# Altium schematic symbol library RF.SchLib: 33 symbols
Pins are listed as number, name and electrical type; pins without a type are passive.

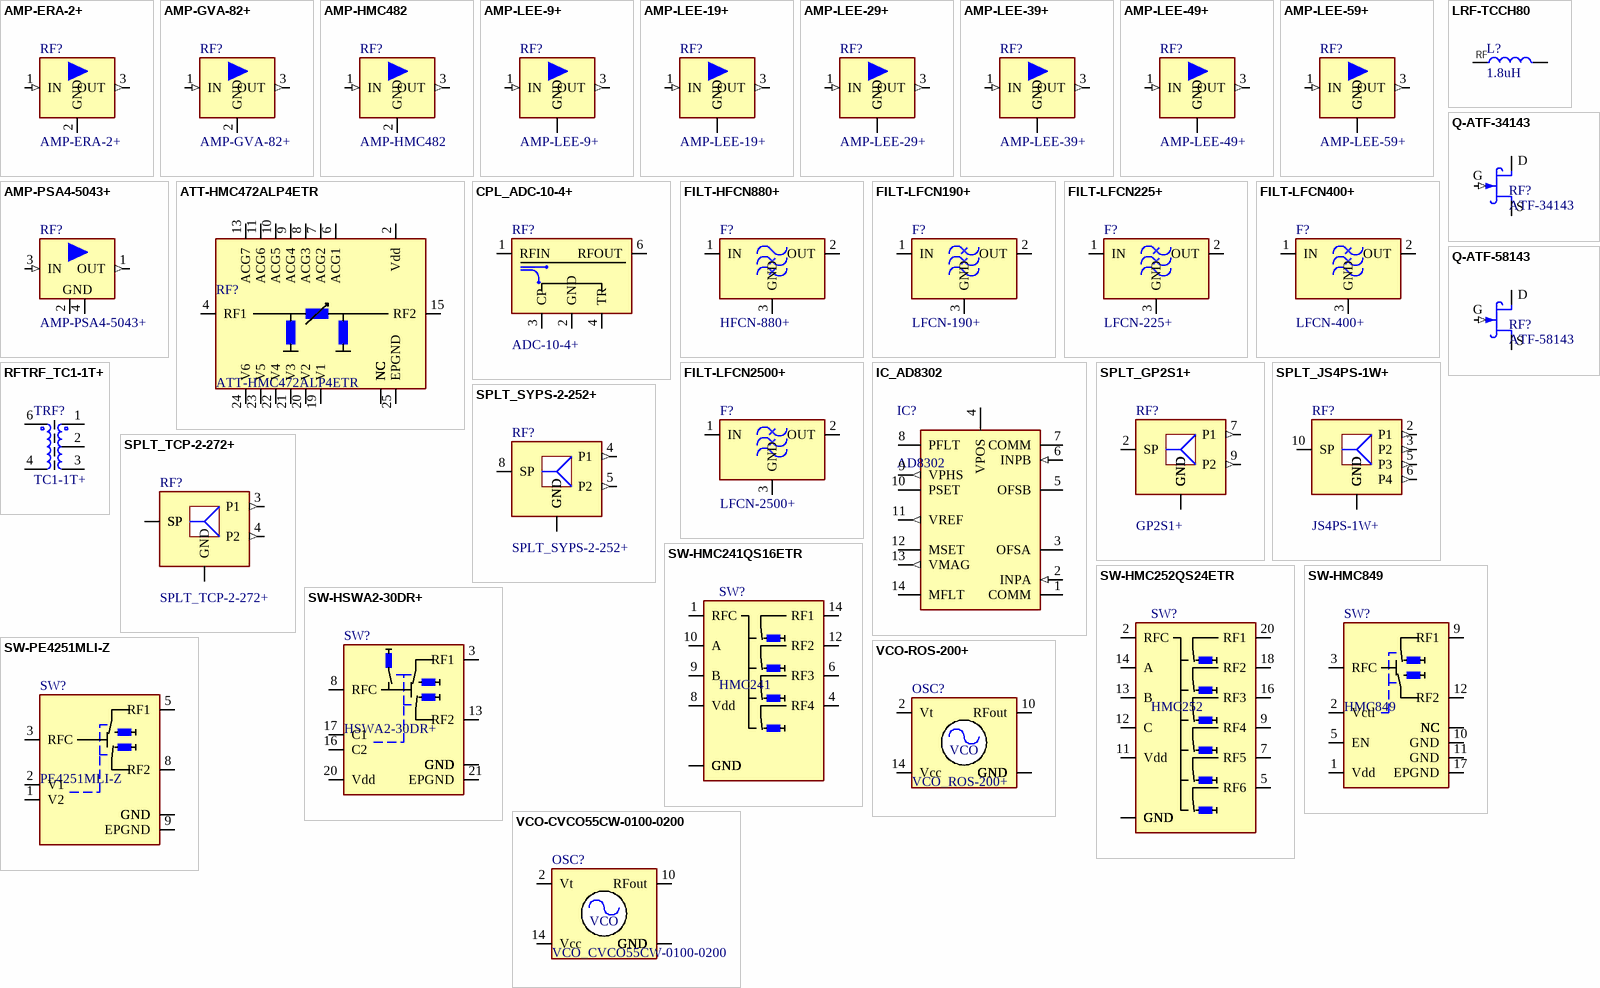
[diagram p0: symbols AMP-ERA-2+ to VCO-ROS-200+]

## AMP-ERA-2+
designator RF?
Monolithic Amplifier DC - 6GHz; Manufacturer: MiniCircuits; Manufacturer No: ERA-2+; Tech: SMDR; Package: VV109; Supplier 1: MiniCircuits; Supplier Part Number 1: ERA-2+; Supplier Unit Price 1: 1.52
footprint VV105 (RF transistor 4pin D2.2x1.5mm)
pins: 1 IN (in), 2 GND (power), 3 OUT (out)

## AMP-GVA-82+
designator RF?
Monolithic Amplifier DC - 7GHz; Manufacturer: MiniCircuits; Tech: SMDR; Manufacturer No: GVA-82+; Package: SOT-89; Supplier 1: MiniCircuits; Supplier Part Number 1: GVA-82+; Supplier Unit Price 1: 1.82
footprint SOT89-1 (SOT89 3-Leads 4,5x2,4mm R1,50mm)
pins: 1 IN (in), 2 GND (power), 3 OUT (out)

## AMP-HMC482
designator RF?
Monolithic Amplifier DC - 5GHz; Manufacturer: Analog Devices; Manufacturer No: HMC482ST89ETR; Tech: SMDR; Package: SOT-89; Supplier 1: Mouser; Supplier Part Number 1: 584-HMC482ST89ETR; Supplier 2: Newark; Supplier Part Number 2: 27Y2407; Supplier 3: Digi-Key; Supplier Part Number 3: 1127-1421-1-ND
footprint SOT89-1 (SOT89 3-Leads 4,5x2,4mm R1,50mm)
pins: 1 IN (in), 2 GND (power), 3 OUT (out)

## AMP-LEE-9+
designator RF?
Monolithic Amplifier DC - 8GHz; Manufacturer: MiniCircuits; Manufacturer No: LEE-9+; Tech: SMDR; Package: FG873; Supplier 1: MiniCircuits; Supplier Part Number 1: LEE-9+; Supplier Unit Price 1: 1.79
footprint RF-FG873 (RF Footprint for LEE series FG873)
pins: 1 IN (in), 2 GND (power), 3 OUT (out), 4 GND (power)

## AMP-LEE-19+
designator RF?
Monolithic Amplifier DC - 8GHz; Manufacturer: MiniCircuits; Tech: SMDR; Manufacturer No: LEE-19+; Package: FG873; Supplier 1: MiniCircuits; Supplier Part Number 1: LEE-19+; Supplier Unit Price 1: 1.19
footprint RF-FG873 (RF Footprint for LEE series FG873)
pins: 1 IN (in), 2 GND (power), 3 OUT (out), 4 GND (power)

## AMP-LEE-29+
designator RF?
Monolithic Amplifier DC - 8GHz; Manufacturer: MiniCircuits; Tech: SMDR; Manufacturer No: LEE-29+; Package: FG873; Supplier 1: MiniCircuits; Supplier Part Number 1: LEE-29+; Supplier Unit Price 1: 1.19
footprint RF-FG873 (RF Footprint for LEE series FG873)
pins: 1 IN (in), 2 GND (power), 3 OUT (out), 4 GND (power)

## AMP-LEE-39+
designator RF?
Monolithic Amplifier DC - 8GHz; Manufacturer: MiniCircuits; Tech: SMDR; Manufacturer No: LEE-39+; Package: FG873; Supplier 1: MiniCircuits; Supplier Part Number 1: LEE-39+; Supplier Unit Price 1: 1.19
footprint RF-FG873 (RF Footprint for LEE series FG873)
pins: 1 IN (in), 2 GND (power), 3 OUT (out), 4 GND (power)

## AMP-LEE-49+
designator RF?
Monolithic Amplifier DC - 5GHz; Manufacturer: MiniCircuits; Tech: SMDR; Manufacturer No: LEE-49+; Package: FG873; Supplier 1: MiniCircuits; Supplier Part Number 1: LEE-49+; Supplier Unit Price 1: 1.79
footprint RF-FG873 (RF Footprint for LEE series FG873)
pins: 1 IN (in), 2 GND (power), 3 OUT (out), 4 GND (power)

## AMP-LEE-59+
designator RF?
Monolithic Amplifier DC - 5GHz; Manufacturer: MiniCircuits; Tech: SMDR; Manufacturer No: LEE-59+; Package: FG873; Supplier 1: MiniCircuits; Supplier Part Number 1: LEE-59+; Supplier Unit Price 1: 1.79
footprint RF-FG873 (RF Footprint for LEE series FG873)
pins: 1 IN (in), 2 GND (power), 3 OUT (out), 4 GND (power)

## AMP-PSA4-5043+
designator RF?
Monolithic Amplifier 50MHz - 4GHz, 0.75NF; Manufacturer: MiniCircuits; Tech: SMDR; Manufacturer No: PSA4-5043+; Package: MMM1362; Supplier 1: MiniCircuits; Supplier Part Number 1: PSA4-5043+; Supplier Unit Price 1: 2.58
footprint MMM1362
pins: 1 OUT (out), 2 GND (power), 3 IN (in), 4 GND (power)

## ATT-HMC472ALP4ETR
designator RF?
Digital Step Attenuator 50R, DC to 3.8GHz, 0 to 31.5dB; Manufacturer: Analog Devices; Tech: SMDR; Manufacturer No: HMC472ALP4ETR; Package: QFN-24; Supplier 1: Mouser; Supplier Part Number 1: 584-HMC472ALP4ETR; Supplier 2: Digi-Key; Supplier Part Number 2: 1127-1854-1-ND; Supplier 3: Newark; Supplier Part Number 3: 27Y2373
footprint QFN50P400X400X100_HS-25N (QFN, 24-Leads, Body 4.00x4.00mm, Pitch 0.50mm, Thermal Pad 2.80x2.100mm, IPC Medium Density)
pins: 1 NC, 2 Vdd, 3 NC, 4 RF1, 5 NC, 6 ACG1, 7 ACG2, 8 ACG3, 9 ACG4, 10 ACG5, 11 ACG6, 12 NC, 13 ACG7, 14 NC, 15 RF2, 16 NC, 17 NC, 18 NC, 19 V1, 20 V2, 21 V3, 22 V4, 23 V5, 24 V6, 25 EPGND

## CPL_ADC-10-4+
designator RF?, comment ADC-10-4+
Directional Coupler, 50R, 5 MHz to 1000 MHz; Manufacturer: MiniCircuits; Tech: SMDR; Manufacturer No: ADC-10-4+; Package: DC542; Supplier 1: MiniCircuits; Supplier Part Number 1: ADC-10-4+; Supplier Unit Price 1: 11.95
footprint DC542 (Directionanl coupler 50R 5 to 2500MHz)
pins: 1 RFIN, 2 GND (power), 3 CP (power), 4 TR (power), 6 RFOUT

## FILT-HFCN880+
designator F?, comment HFCN-880+
High Pass Filter 950 to 3200MHz 50R; Manufacturer: MiniCircuits; Tech: SMDR; Manufacturer No: HFCN-880+; Package: Filter Chip 1206; Supplier 1: MiniCircuits; Supplier Part Number 1: HFCN-880+; Supplier Unit Price 1: 1.99
footprint FV1206-1 (Filter chip 1206 4 pad)
pins: 1 IN, 2 OUT, 3 GND

## FILT-LFCN190+
designator F?, comment LFCN-190+
Low Pass Filter DC to 190MHz 50R; Manufacturer: MiniCircuits; Tech: SMDR; Manufacturer No: LFCN-190+; Package: Filter Chip 1206; Supplier 1: MiniCircuits; Supplier Part Number 1: LFCN-190+; Supplier Unit Price 1: 2.99
footprint FV1206-1 (Filter chip 1206 4 pad)
pins: 1 IN, 2 OUT, 3 GND

## FILT-LFCN225+
designator F?, comment LFCN-225+
Low Pass Filter DC to 225MHz 50R; Manufacturer: MiniCircuits; Tech: SMDR; Manufacturer No: LFCN-225+; Package: Filter Chip 1206; Supplier 1: MiniCircuits; Supplier Part Number 1: LFCN-225+; Supplier Unit Price 1: 2.99
footprint FV1206-1 (Filter chip 1206 4 pad)
pins: 1 IN, 2 OUT, 3 GND

## FILT-LFCN400+
designator F?, comment LFCN-400+
Low Pass Filter DC to 225MHz 50R; Manufacturer: MiniCircuits; Tech: SMDR; Manufacturer No: LFCN-400+; Package: Filter Chip 1206; Supplier 1: MiniCircuits; Supplier Part Number 1: LFCN-400+; Supplier Unit Price 1: 2.99
footprint FV1206-1 (Filter chip 1206 4 pad)
pins: 1 IN, 2 OUT, 3 GND

## FILT-LFCN2500+
designator F?, comment LFCN-2500+
Low Pass Filter DC to 225MHz 50R; Manufacturer: MiniCircuits; Tech: SMDR; Manufacturer No: LFCN-2500+; Package: Filter Chip 1206; Supplier 1: MiniCircuits; Supplier Part Number 1: LFCN-2500+; Supplier Unit Price 1: 1.99
footprint FV1206-1 (Filter chip 1206 4 pad)
pins: 1 IN, 2 OUT, 3 GND

## IC_AD8302
designator IC?, comment AD8302
RF/IF Gain and Phase Detector TSSOP14; Manufacturer: Analog Devices; Manufacturer No: AD8302ARUZ; Tech: SMDR; Package: TSSOP14; Supplier 1: Mouser; Supplier Part Number 1: 584-AD8302ARUZ; Supplier 2: Digi-Key; Supplier Part Number 2: AD8302ARUZ-ND
footprint TSOP65P640X120-14N (TSSOP14, 14-Leads, Body 5,1x4,4mm (max), Pitch 0,65mm, IPC Medium Density)
pins: 1 COMM (power), 2 INPA (in), 3 OFSA, 4 VPOS (power), 5 OFSB, 6 INPB (in), 7 COMM (power), 8 PFLT, 9 VPHS (out), 10 PSET, 11 VREF (out), 12 MSET, 13 VMAG (out), 14 MFLT

## LRF-TCCH80
designator L?, comment 1.8uH
Wideband RF choke 1.8uH; Manufacturer: MiniCircuits; Manufacturer No: TCCH-80+; Tech: SMDR; Package: GU1041; Supplier 1: MiniCircuits; Supplier Part Number 1: TCCH-80+; Supplier Unit Price 1: 3.45
footprint LGU1041 (RF Choke 3.81x3.81mm 4pin)
pins: 1, 3
text: RF

## Q-ATF-34143
designator RF?, comment ATF-34143
0.45 to 10 GHz Low Noise PHEMT 60mA@4V; Manufacturer: Avago; Manufacturer No: ATF-34143-TR16; Tech: SMDR; Package: SOT343; Supplier 1: Mouser; Supplier Part Number 1: 630-ATF-34143-TR1G; Supplier 2: Digi-Key; Supplier Part Number 2: 516-1571-1-ND
footprint SOT343 (SOT323 medium density (SC70))
pins: 1 D, 2 S, 3 G (in), 4 S

## Q-ATF-58143
designator RF?, comment ATF-58143
0.45 to 6 GHz Low Noise PHEMT 30mA@3V; Manufacturer: Avago; Manufacturer No: ATF-58143-BLKG; Tech: SMDR; Package: SOT343; Supplier 1: Newark; Supplier Part Number 1: 63J8890; Supplier 2: Digi-Key; Supplier Part Number 2: 516-1870-ND; Supplier 3: Mouser; Supplier Part Number 3: 630-ATF-58143-BLKG
footprint SOT343 (SOT323 medium density (SC70))
pins: 1 D, 2 S, 3 G (in), 4 S

## RFTRF_TC1-1T+
designator TRF?, comment TC1-1T+
RF transformer MiniCircuits  5pin 0.4 to 500MHz; Tech: SMDR; Manufacturer: MiniCircuits; Manufacturer No: TC1-1T+; Package: RF trf AT224; Supplier 1: MiniCircuits; Supplier Part Number 1: TC1-1T+; Supplier Unit Price 1: 2.19
footprint RFTRF-AT224-1 (RF transformer 5pin)
pins: 1, 2, 3, 4, 6

## SPLT_GP2S1+
designator RF?, comment GP2S1+
Power Splitter / Combiner 2-Way, 50R, 500 MHz to 2500 MHz; Manufacturer: MiniCircuits; Tech: SMDR; Manufacturer No: GP2S1+; Package: DQ1225; Supplier 1: MiniCircuits; Supplier Part Number 1: GP2S1+; Supplier Unit Price 1: 1.49
footprint DQ1225 (QFN, 12-Leads, Body 3,0x3,0mm (max), Pitch 0,51mm, IPC Medium Density)
pins: 1 GND (power), 2 SP, 3 GND (power), 4 GND (power), 5 GND (power), 6 GND (power), 7 P1 (out), 8 GND (power), 9 P2 (out), 10 GND (power), 11 GND (power), 12 GND (power), 13 GND (power)

## SPLT_JS4PS-1W+
designator RF?, comment JS4PS-1W+
Power Splitter / Combiner 4-Way, 50R, 5 MHz to 1000 MHz; Manufacturer: MiniCircuits; Tech: SMDR; Manufacturer No: JS4PS-1W+; Package: BK377; Supplier 1: MiniCircuits; Supplier Part Number 1: JS4PS-1W+; Supplier Unit Price 1: 14.95
footprint BK377 (Power Splitter/Combiner 4way 50R 5 to 1000MHz)
pins: 1 GND (power), 2 P1 (out), 3 P2 (out), 4 GND (power), 5 P3 (out), 6 P4 (out), 7 GND (power), 8 GND (power), 9 GND (power), 10 SP, 11 GND (power), 12 GND (power), 13 GND (power), 14 GND (power)

## SPLT_SYPS-2-252+
designator RF?
Power Splitter / Combiner 2-Way, 50R, 5 MHz to 2500 MHz; Manufacturer: MiniCircuits; Tech: SMDR; Manufacturer No: SYPS-2-252+; Package: AH202-2; Supplier 1: MiniCircuits; Supplier Part Number 1: SYPS-2-252+; Supplier Unit Price 1: 18.95
footprint AH202-2 (Power Splitter/Combiner 2way 50R 5 to 2500MHz)
pins: 1 GND (power), 4 P1 (out), 5 P2 (out), 8 SP, 23 GND (power), 67 GND (power)

## SPLT_TCP-2-272+
designator RF?
Power Splitter / Combiner 2-Way, 50R, 5 MHz to 2700 MHz; Manufacturer: MiniCircuits; Tech: SMDR; Manufacturer No: TCP-2-272+; Package: DB1627; Supplier 1: MiniCircuits; Supplier Part Number 1: TCP-2-272+; Supplier Unit Price 1: 2.49
footprint DB1627 (RF Splitter)
pins: 1 GND (power), 2 SP, 3 P1 (out), 4 P2 (out), 5 SP, 6 SP

## SW-HMC241QS16ETR
designator SW?, comment HMC241
GaAs MMIC SP4T Non-Refl.  SW, DC - 3.5 GHz; Manufacturer: Analog Devices; Manufacturer No: HMC241QS16ETR; Tech: SMDR; Package: QFN16; Supplier 1: Mouser; Supplier Part Number 1: 584-HMC241QS16ETR; Supplier 2: Digi-Key; Supplier Part Number 2: 1127-1009-1-ND; Supplier 3: Newark; Supplier Part Number 3: 41Y8543
footprint TSSOP65P600X175-16N (SOP, 16-Leads, Body 4.90x3.90mm, Pitch 0.65mm, IPC Medium Density)
pins: 1 RFC, 2 GND, 3 GND, 4 RF4, 5 GND, 6 RF3, 7 GND, 8 Vdd, 9 B, 10 A, 11 GND, 12 RF2, 13 GND, 14 RF1, 15 GND, 16 GND

## SW-HMC252QS24ETR
designator SW?, comment HMC252
GaAs MMIC SP6T Non-Refl.  SW, DC - 3 GHz; Manufacturer: Analog Devices; Manufacturer No: HMC252QS24ETR; Tech: SMDR; Package: MSOP24; Supplier 1: Mouser; Supplier Part Number 1: 584-HMC252QS24ETR; Supplier 2: Digi-Key; Supplier Part Number 2: 1127-1011-6-ND; Supplier 3: Newark; Supplier Part Number 3: 41Y8547
footprint SOP65P600X175-24N (SOP, 24-Leads, Body 8.65x3.90mm, Pitch 0.65mm, IPC Medium Density)
pins: 1 GND, 2 RFC, 3 GND, 4 GND, 5 RF6, 6 GND, 7 RF5, 8 GND, 9 RF4, 10 GND, 11 Vdd, 12 C, 13 B, 14 A, 15 GND, 16 RF3, 17 GND, 18 RF2, 19 GND, 20 RF1, 21 GND, 22 GND, 23 GND, 24 GND

## SW-HMC849
designator SW?, comment HMC849
High Isolation SPDT, Non-Reflective SW, DC - 6 GHz; Manufacturer: Analog Devices; Manufacturer No: HMC849ALP4CETR; Tech: SMDR; Package: QFN16; Supplier 1: Digi-Key; Supplier Part Number 1: 1127-1870-1-ND; Supplier 2: Mouser; Supplier Part Number 2: 584-HMC849ALP4CETR
footprint QFN65P400X400X100-16N (QFN 4x4mm 16pin R0.65mm)
pins: 1 Vdd, 2 Vctl, 3 RFC, 4 NC, 5 EN, 6 NC, 7 NC, 8 NC, 9 RF1, 10 GND, 11 GND, 12 RF2, 13 NC, 14 NC, 15 NC, 16 NC, 17 EPGND

## SW-HSWA2-30DR+
designator SW?, comment HSWA2-30DR+
High Isolation SPDT, Absortive SW, DC - 3GHz, 50Ohm; Manufacturer: Minicircuits; Tech: SMDR; Manufacturer No: HSWA2-30DR+; Package: QFN20; Supplier 1: Minicircuits; Supplier Part Number 1: HSWA2-30DR+; Supplier Unit Price 1: 2.95
footprint QFN50P400X400X100-20N (QFN, 20-Leads, Body 4,0x4,0mm (max), Pitch 0,50mm, IPC Medium Density)
pins: 1 GND, 2 GND, 3 RF1, 4 GND, 5 GND, 6 GND, 7 GND, 8 RFC, 9 GND, 10 GND, 11 GND, 12 GND, 13 RF2, 14 GND, 15 GND, 16 C2, 17 C1, 18 GND, 19 GND, 20 Vdd, 21 EPGND

## SW-PE4251MLI-Z
designator SW?, comment PE4251MLI-Z
High Isolation SPDT, Absortive SW, DC - 3GHz, 50Ohm; Manufacturer: Peregrine; Tech: SMDR; Manufacturer No: PE4251MLI-Z; Package: MSOP8; Supplier 1: Digi-Key; Supplier Part Number 1: 1046-1018-6-ND
footprint MSOP8N1
pins: 1 V2, 2 V1, 3 RFC, 4 GND, 5 RF1, 6 GND, 7 GND, 8 RF2, 9 EPGND

## VCO-CVCO55CW-0100-0200
designator OSC?, comment VCO_CVCO55CW-0100-0200
Voltage Controlled Oscilator 100MHz to 200MHz; Manufacturer: Crystek; Tech: SMDR; Manufacturer No: CVCO55CW-0100-0200; Package: 12.7x12.7; Supplier 1: Mouser; Supplier Part Number 1: 549-CV55CW0100-0200
footprint CVCO55 (Crystek CVCO55)
pins: 1 GND, 2 Vt, 3 GND, 4 GND, 5 GND, 6 GND, 7 GND, 8 GND, 9 GND, 10 RFout, 11 GND, 12 GND, 13 GND, 14 Vcc, 15 GND, 16 GND
text: VCO

## VCO-ROS-200+
designator OSC?, comment VCO_ROS-200+
Voltage Controlled Oscilator 100MHz to 200MHz; Manufacturer: MiniCircuits; Tech: SMDR; Manufacturer No: ROS-200+; Package: 12.7x12.7; Supplier 1: MiniCircuits; Supplier Part Number 1: ROS-200+; Supplier Unit Price 1: 12.95
footprint CVCO55 (Crystek CVCO55)
pins: 1 GND, 2 Vt, 3 GND, 4 GND, 5 GND, 6 GND, 7 GND, 8 GND, 9 GND, 10 RFout, 11 GND, 12 GND, 13 GND, 14 Vcc, 15 GND, 16 GND
text: VCO